# Altium footprint library EE_smallOB_BW_v1.0.PcbLib: 38 footprints (part 2 of 3)
Each footprint in its own frame and in the unit in brackets; x right, y up, seen from the top. Pads: shape width x height; smd on the part's side, far side on the other; paste and mask are expansions set on the pad; w line width, h text height; cw(c..) or ccw(c..) is an arc to the next point about the centre after c.
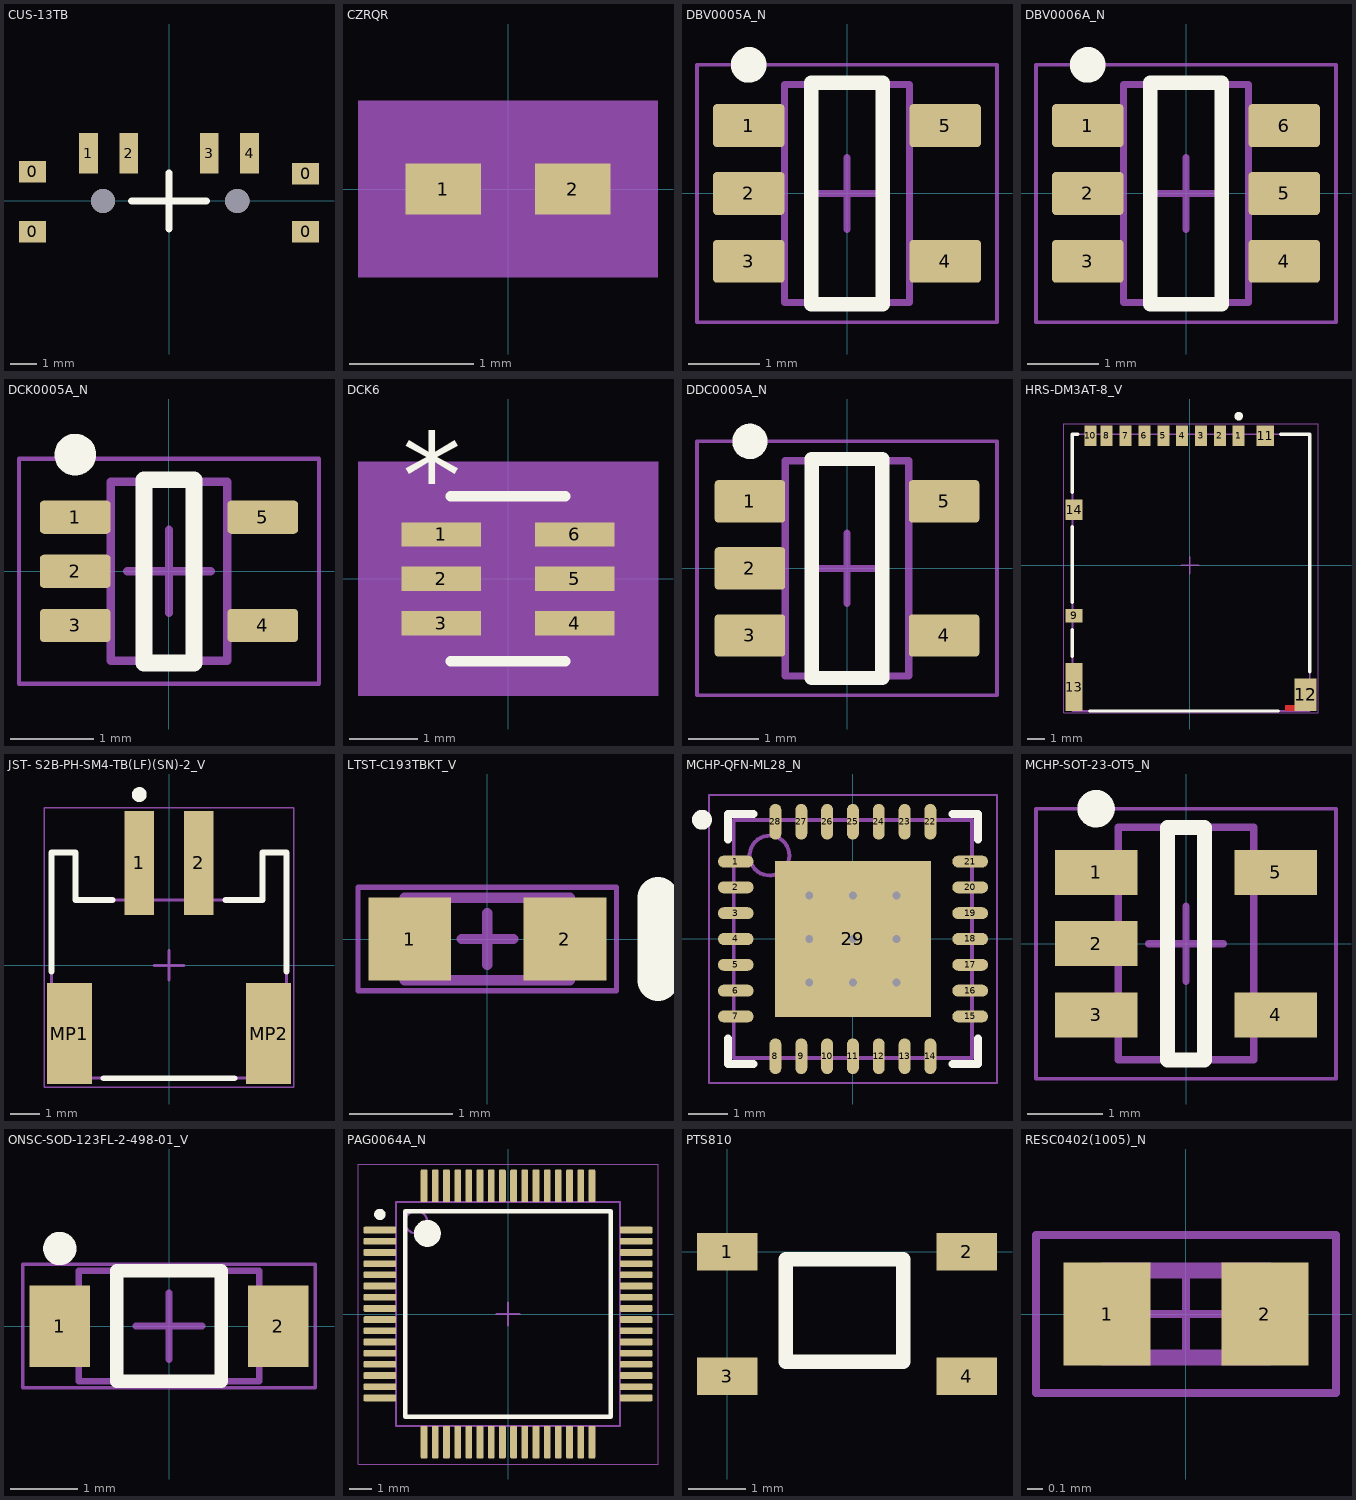
[diagram p1: the footprints below, top view; thin cyan lines are the x and y axes]

## CUS-13TB [mm]
pads (8):
  rect 1x0.8 smd: 0(-5.08,-1.143) 0(-5.08,1.092) 0(5.08,-1.143) 0(5.08,1.016)
  rect 0.7x1.5 smd: 1(-3,1.778) 2(-1.496,1.778) 3(1.5,1.778) 4(3,1.778)
via -2.46,0 diameter 0.9 hole 0.9
via 2.54,0 diameter 0.9 hole 0.9
Top Overlay:
  lines w0.254: -1.397,0 1.397,0 ; 0,-1.05 0,0 0,1.05

## CZRQR [mil]
pads (2):
  rect 24x16 smd paste+0 mask+0: 1(-20.5,0) 2(20.5,0)
Mechanical 5:
  region: 47.5,-28 -47.5,-28 -47.5,28 47.5,28
Mechanical 13:
  circle w6: c-8.5,0 r3
  lines w0: -12,13 ccw(c0,13) 12,13
  lines w1: -20.5,-13 20.5,-13 20.5,13 -20.5,13 -20.5,-13
Mechanical 15:
  region: -30.5,-18 -42.5,-18 -42.5,18 -30.5,18 -30.5,23 30.5,23 30.5,18 42.5,18 42.5,-18 30.5,-18 30.5,-23 -30.5,-23
  lines w6: -42.5,-18 -42.5,18 -30.5,18 -30.5,23 30.5,23 30.5,18 42.5,18 42.5,-18 30.5,-18 30.5,-23 -30.5,-23 -30.5,-18 -42.5,-18
3D body "CZRQR.step": height 22.09, standoff 0, extent -20.51,-12.99 20.51,13
3D body: height 10, standoff 0, extent 0,0 10,10

## DBV0005A_N [mm] "SOT23, 5-Leads, Body 3.05x1.75mm, Pitch 0.95mm, IPC Medium Density"
height 1.45
pads (5):
  rrect17% 1x0.6 smd: 1(-1.375,0.95) 2(-1.375,0) 3(-1.375,-0.95) 4(1.375,-0.95) 5(1.375,0.95)
Top Overlay:
  circle w0.25: c-1.375,1.8 r0.125
  lines w0.2: -0.5,-1.55 -0.5,1.55 0.5,1.55 0.5,-1.55 -0.5,-1.55
Mechanical 1:
  text ".Designator" at -0.635,-0.254 h0.4
Mechanical 13:
  lines w0.1: -0.875,-1.525 0.875,-1.525 0.875,1.525 -0.875,1.525 -0.875,-1.525
Mechanical 15:
  lines w0.05: -2.1,-1.8 2.1,-1.8 2.1,1.8 -2.1,1.8 -2.1,-1.8
  lines w0.1: -0.5,0 0.5,0 ; 0,-0.5 0,0.5
3D body "DBV0005AaksMF05A.stp": height 1.08, standoff -0.01, extent -1.422,-1.461 1.422,1.46

## DBV0006A_N [mm] "SOT23, 6-Leads, Body 3.05x1.75mm, Pitch 0.95mm, IPC Medium Density"
height 1.45
pads (6):
  rrect17% 1x0.6 smd: 1(-1.375,0.95) 2(-1.375,0) 3(-1.375,-0.95) 4(1.375,-0.95) 5(1.375,0) 6(1.375,0.95)
Top Overlay:
  circle w0.25: c-1.375,1.8 r0.125
  lines w0.2: -0.5,-1.55 -0.5,1.55 0.5,1.55 0.5,-1.55 -0.5,-1.55
Mechanical 1:
  text ".Designator" at -0.635,-0.127 h0.4
Mechanical 13:
  lines w0.1: -0.875,-1.525 0.875,-1.525 0.875,1.525 -0.875,1.525 -0.875,-1.525
Mechanical 15:
  lines w0.05: -2.1,-1.8 2.1,-1.8 2.1,1.8 -2.1,1.8 -2.1,-1.8
  lines w0.1: -0.5,0 0.5,0 ; 0,-0.5 0,0.5
3D body "DBV0006AakaMF06A.stp": height 1.11, standoff -0.01, extent -1.422,-1.461 1.422,1.46

## DCK0005A_N [mm] "SOT23, 5-Leads, Body 2.15x1.4mm, Pitch 0.65mm, IPC Medium Density"
height 1.1
pads (5):
  rrect25% 0.85x0.4 smd: 1(-1.125,0.65) 2(-1.125,0) 3(-1.125,-0.65) 4(1.125,-0.65) 5(1.125,0.65)
Top Overlay:
  circle w0.25: c-1.125,1.4 r0.125
  lines w0.2: -0.3,-1.1 -0.3,1.1 0.3,1.1 0.3,-1.1 -0.3,-1.1
Mechanical 1:
  text ".Designator" at -0.635,-0.127 h0.3
Mechanical 13:
  lines w0.1: -0.7,-1.075 0.7,-1.075 0.7,1.075 -0.7,1.075 -0.7,-1.075
Mechanical 15:
  lines w0.05: -1.8,-1.35 1.8,-1.35 1.8,1.35 -1.8,1.35 -1.8,-1.35
  lines w0.1: -0.5,0 0.5,0 ; 0,-0.5 0,0.5
3D body "DCK0005AakaMAA05A.stp": height 0.94, standoff -0.01, extent -1.14,-1 1.14,1

## DCK6 [mil]
pads (6):
  rect 46x14 smd paste+0 mask+0: 1(-38.5,25.59) 2(-38.5,0) 3(-38.5,-25.59) 4(38.5,-25.59) 5(38.5,0) 6(38.5,25.59)
Top Overlay:
  lines w6: -33,-47.5 33,-47.5 ; -33,47.5 33,47.5
  text "*" at -61,34.59 h50
Mechanical 5:
  region: 86.5,-67.5 -86.5,-67.5 -86.5,67.5 86.5,67.5
Mechanical 13:
  lines w0: -12,42.5 ccw(c0,42.5) 12,42.5
  lines w1: -47.5,-31.59 -28,-31.59 -28,-19.59 -47.5,-19.59 -47.5,-31.59 ; -47.5,-6 -28,-6 -28,6 -47.5,6 -47.5,-6 ; -47.5,19.59 -28,19.59 -28,31.59 -47.5,31.59 -47.5,19.59 ; -28,-42.5 -28,42.5 28,42.5 28,-42.5 -28,-42.5 ; 28,-31.59 47.5,-31.59 47.5,-19.59 28,-19.59 28,-31.59 ; 28,-6 47.5,-6 47.5,6 28,6 28,-6 ; 28,19.59 47.5,19.59 47.5,31.59 28,31.59 28,19.59
  text "*" at -25.5,-10.5 h50
Mechanical 15:
  region: -38,-42.59 -71.5,-42.59 -71.5,42.59 -38,42.59 -38,52.5 38,52.5 38,42.59 71.5,42.59 71.5,-42.59 38,-42.59 38,-52.5 -38,-52.5
  lines w6: -71.5,-42.59 -38,-42.59 -38,-52.5 38,-52.5 38,-42.59 71.5,-42.59 71.5,42.59 38,42.59 38,52.5 -38,52.5 -38,42.59 -71.5,42.59 -71.5,-42.59
3D body "DCK6.step": height 43.11, standoff 0, extent -47.52,-42.51 47.52,42.52
3D body: height 10, standoff 0, extent 0,0 10,10

## DDC0005A_N [mm] "SOT23, 5-Leads, Body 3.05x1.75mm, Pitch 0.95mm, IPC Medium Density"
height 1.1
pads (5):
  rrect17% 1x0.6 smd: 1(-1.375,0.95) 2(-1.375,0) 3(-1.375,-0.95) 4(1.375,-0.95) 5(1.375,0.95)
Top Overlay:
  circle w0.25: c-1.375,1.8 r0.125
  lines w0.2: -0.5,-1.55 -0.5,1.55 0.5,1.55 0.5,-1.55 -0.5,-1.55
Mechanical 1:
  text ".Designator" at -0.889,-0.127 h0.4
Mechanical 13:
  lines w0.1: -0.875,-1.525 0.875,-1.525 0.875,1.525 -0.875,1.525 -0.875,-1.525
Mechanical 15:
  lines w0.05: -2.125,-1.8 2.125,-1.8 2.125,1.8 -2.125,1.8 -2.125,-1.8
  lines w0.1: -0.5,0 0.5,0 ; 0,-0.5 0,0.5
3D body: height 1.1, standoff 0, extent -0.875,-1.525 0.875,1.525

## HRS-DM3AT-8_V [mm] "SMD, 8-Leads, Body 16.15x13.85mm, Pitch 1.1mm"
height 1.68
pads (14):
  rect 0.7x1.2 smd: 1(2.85,7.55) 2(1.75,7.55) 3(0.65,7.55) 4(-0.45,7.55) 5(-1.55,7.55) 6(-2.65,7.55) 7(-3.75,7.55) 8(-4.85,7.55) 10(-5.8,7.55)
  rect 1x0.8 smd: 9(-6.75,-2.95)
  rect 1x1.2 smd: 11(4.4,7.55) 14(-6.75,3.25)
  rect 1.3x1.9 smd: 12(6.75,-7.55)
  rect 1x2.8 smd: 13(-6.75,-7.1)
Top Layer:
  region: 6.25,-8.5 6.25,-8.15 5.55,-8.15 5.55,-8.5
Top Overlay:
  circle w0.25: c2.85,8.7 r0.125
  lines w0.2: -6.85,-5.3 -6.85,-3.75 ; -6.85,-2.15 -6.85,2.25 ; -6.85,4.25 -6.85,7.65 -6.55,7.65 ; -5.85,-8.5 5.15,-8.5 ; 5.3,7.65 7,7.65 7,-6.2
Mechanical 13:
  lines w0.1: -6.85,-8.5 -6.85,7.65 7,7.65 7,-8.5 -6.85,-8.5
Mechanical 15:
  lines w0.05: -7.35,-8.6 -7.35,8.25 7.5,8.25 7.5,-8.6 -7.35,-8.6
  lines w0.1: -0.5,0 0.5,0 ; 0,-0.5 0,0.5
3D body "DM3AT-SF-PEJM5.stp": height 1.68, standoff 0, extent -6.85,-8.5 7,7.65

## JST- S2B-PH-SM4-TB(LF)(SN)-2_V [mm] "SMD, 2-Leads, Body 7.9x7.6mm, Pitch 2mm"
height 5.5
pads (4):
  rect 1x3.5 smd: 1(-1,3.45) 2(1,3.45)
  rect 1.5x3.4 smd: MP1(-3.35,-2.3) MP2(3.35,-2.3)
Top Overlay:
  circle w0.25: c-1,5.75 r0.125
  lines w0.2: -3.95,-0.2 -3.95,3.8 -3.15,3.8 -3.15,2.2 -1.9,2.2 ; -2.2,-3.8 2.2,-3.8 ; 1.9,2.2 3.15,2.2 3.15,3.8 3.95,3.8 3.95,-0.2
Mechanical 13:
  lines w0.1: -3.95,-3 -3.45,-3 -3.45,-3.8 3.45,-3.8 3.45,-3 3.95,-3 3.95,3.8 3.15,3.8 3.15,2.2 -3.15,2.2 -3.15,3.8 -3.95,3.8 -3.95,-3
Mechanical 15:
  lines w0.05: -4.2,-4.1 -4.2,5.3 4.2,5.3 4.2,-4.1 -4.2,-4.1
  lines w0.1: -0.5,0 0.5,0 ; 0,-0.5 0,0.5
3D body "S2B-PH-SM4-TB.STEP": height 5.6, standoff 0, extent -3.95,-3.8 3.95,4.8

## LTST-C193TBKT_V [mm] "SMD, 2-Leads, Body 0.8x1.6mm"
height 0.35
pads (2):
  rect 0.8x0.8 smd: 1(-0.75,0) 2(0.75,0)
Top Overlay:
  lines w0.4: 1.65,-0.4 1.65,0.4
Mechanical 13:
  lines w0.1: -0.8,-0.4 0.8,-0.4 0.8,0.4 -0.8,0.4 -0.8,-0.4
Mechanical 15:
  lines w0.05: -1.25,-0.5 1.25,-0.5 1.25,0.5 -1.25,0.5 -1.25,-0.5
  lines w0.1: -0.25,0 0.25,0 ; 0,-0.25 0,0.25
3D body: height 0.18, standoff 0.01, extent -0.85,-0.45 0.85,0.45
3D body: height 0.01, standoff 0, extent -0.3,-0.45 0.3,0.45
3D body: height 0.01, standoff 0, extent 0.55,-0.45 0.85,0.45
3D body: height 0.01, standoff 0, extent -0.85,-0.45 -0.55,0.45
3D body: height 0.45, standoff 0.18, extent -0.575,-0.45 0.575,0.45
3D body: height 0.4, standoff 0.18, extent 0.15,-0.1 0.35,0.1

## MCHP-QFN-ML28_N [mm] "QFN, 28-Leads, Body 6x6mm, Pitch 0.65mm, Thermal Pad 3.7x3.7mm, IPC Medium Density"
height 1
pads (29):
  oval 0.9x0.3 smd: 1(-2.95,1.95) 2(-2.95,1.3) 3(-2.95,0.65) 4(-2.95,0) 5(-2.95,-0.65) 6(-2.95,-1.3) 7(-2.95,-1.95) 15(2.95,-1.95) 16(2.95,-1.3) 17(2.95,-0.65) 18(2.95,0) 19(2.95,0.65) 20(2.95,1.3) 21(2.95,1.95)
  oval 0.3x0.9 smd: 8(-1.95,-2.95) 9(-1.3,-2.95) 10(-0.65,-2.95) 11(0,-2.95) 12(0.65,-2.95) 13(1.3,-2.95) 14(1.95,-2.95) 22(1.95,2.95) 23(1.3,2.95) 24(0.65,2.95) 25(0,2.95) 26(-0.65,2.95) 27(-1.3,2.95) 28(-1.95,2.95)
  rect 3.93x3.93 smd: 29(0,0)
via 1.1,-1.1 diameter 0.5 hole 0.2
via 0,-1.1 diameter 0.5 hole 0.2
via -1.1,-1.1 diameter 0.5 hole 0.2
via 1.1,0 diameter 0.5 hole 0.2
via 0,0 diameter 0.5 hole 0.2
via -1.1,0 diameter 0.5 hole 0.2
via 1.1,1.1 diameter 0.5 hole 0.2
via 0,1.1 diameter 0.5 hole 0.2
via -1.1,1.1 diameter 0.5 hole 0.2
Top Overlay:
  circle w0.25: c-3.8,3 r0.125
  lines w0.2: -3.15,-2.5 -3.15,-3.15 -2.5,-3.15 ; -3.15,2.5 -3.15,3.15 -2.5,3.15 ; 2.5,-3.15 3.15,-3.15 3.15,-2.5 ; 2.5,3.15 3.15,3.15 3.15,2.5
Mechanical 13:
  circle w0.1: c-2.1,2.1 r0.5
  lines w0.1: -3,-3 3,-3 3,3 -3,3 -3,-3
Mechanical 15:
  lines w0.05: -3.625,-3.625 3.625,-3.625 3.625,3.625 -3.625,3.625 -3.625,-3.625
  lines w0.1: -0.5,0 0.5,0 ; 0,-0.5 0,0.5
3D body: height 1, standoff 0, extent -3,-3 3,3

## MCHP-SOT-23-OT5_N [mm] "SOT23, 5-Leads, Body 2.9x1.55mm, Pitch 0.95mm, IPC Medium Density"
height 1.45
pads (5):
  rect 1.1x0.6 smd: 1(-1.2,0.95) 2(-1.2,0) 3(-1.2,-0.95) 4(1.2,-0.95) 5(1.2,0.95)
Top Overlay:
  circle w0.25: c-1.2,1.8 r0.125
  lines w0.2: -0.25,-1.55 -0.25,1.55 0.25,1.55 0.25,-1.55 -0.25,-1.55
Mechanical 13:
  lines w0.1: -0.9,-1.55 0.9,-1.55 0.9,1.55 -0.9,1.55 -0.9,-1.55
Mechanical 15:
  lines w0.05: -2,-1.8 2,-1.8 2,1.8 -2,1.8 -2,-1.8
  lines w0.1: -0.5,0 0.5,0 ; 0,-0.5 0,0.5
3D body: height 1.45, standoff 0, extent -0.9,-1.55 0.9,1.55

## ONSC-SOD-123FL-2-498-01_V [mm] "SOD, 2-Leads, Body 2.7x1.65mm"
height 1
pads (2):
  rect 0.91x1.22 smd: 1(-1.635,0) 2(1.635,0)
Top Overlay:
  circle w0.25: c-1.635,1.16 r0.125
  lines w0.2: -0.78,-0.825 -0.78,0.825 0.78,0.825 0.78,-0.825 -0.78,-0.825
Mechanical 13:
  lines w0.1: -1.35,-0.825 -1.35,0.825 1.35,0.825 1.35,-0.825 -1.35,-0.825
Mechanical 15:
  lines w0.05: -2.19,-0.925 -2.19,0.925 2.19,0.925 2.19,-0.925 -2.19,-0.925
  lines w0.1: -0.5,0 0.5,0 ; 0,-0.5 0,0.5
3D body: height 1, standoff 0, extent -1.35,-0.825 1.35,0.825

## PAG0064A_N [mm] "QFP, 64-Leads, Body 10x10mm, Pitch 0.5mm, IPC Medium Density"
height 1.2
pads (64):
  rrect33% 1.45x0.3 smd: 1(-5.725,3.75) 2(-5.725,3.25) 3(-5.725,2.75) 4(-5.725,2.25) 5(-5.725,1.75) 6(-5.725,1.25) 7(-5.725,0.75) 8(-5.725,0.25) 9(-5.725,-0.25) 10(-5.725,-0.75) 11(-5.725,-1.25) 12(-5.725,-1.75) 13(-5.725,-2.25) 14(-5.725,-2.75) 15(-5.725,-3.25) 16(-5.725,-3.75) 33(5.725,-3.75) 34(5.725,-3.25) 35(5.725,-2.75) 36(5.725,-2.25) 37(5.725,-1.75) 38(5.725,-1.25) 39(5.725,-0.75) 40(5.725,-0.25) 41(5.725,0.25) 42(5.725,0.75) 43(5.725,1.25) 44(5.725,1.75) 45(5.725,2.25) 46(5.725,2.75) 47(5.725,3.25) 48(5.725,3.75)
  rrect33% 0.3x1.45 smd: 17(-3.75,-5.725) 18(-3.25,-5.725) 19(-2.75,-5.725) 20(-2.25,-5.725) 21(-1.75,-5.725) 22(-1.25,-5.725) 23(-0.75,-5.725) 24(-0.25,-5.725) 25(0.25,-5.725) 26(0.75,-5.725) 27(1.25,-5.725) 28(1.75,-5.725) 29(2.25,-5.725) 30(2.75,-5.725) 31(3.25,-5.725) 32(3.75,-5.725) 49(3.75,5.725) 50(3.25,5.725) 51(2.75,5.725) 52(2.25,5.725) 53(1.75,5.725) 54(1.25,5.725) 55(0.75,5.725) 56(0.25,5.725) 57(-0.25,5.725) 58(-0.75,5.725) 59(-1.25,5.725) 60(-1.75,5.725) 61(-2.25,5.725) 62(-2.75,5.725) 63(-3.25,5.725) 64(-3.75,5.725)
Top Overlay:
  circle w0.6: c-3.6,3.6 r0.3
  circle w0.25: c-5.725,4.45 r0.125
  lines w0.2: -4.6,-4.6 4.6,-4.6 4.6,4.6 -4.6,4.6 -4.6,-4.6
Mechanical 1:
  text ".Designator" at -1.524,-0.508 h1.02
Mechanical 13:
  circle w0.1: c-4.1,4.1 r0.5
  lines w0.1: -5,-5 5,-5 5,5 -5,5 -5,-5
Mechanical 15:
  lines w0.05: -6.7,-6.7 6.7,-6.7 6.7,6.7 -6.7,6.7 -6.7,-6.7
  lines w0.1: -0.5,0 0.5,0 ; 0,-0.5 0,0.5
3D body "PAG0064A.stp": height 1.09, standoff 0, extent -6,-6 6,6

## PTS810 [mm]
pads (4):
  rect 1.05x0.65 smd: 1(0,0) 2(4.15,0) 3(0,-2.15) 4(4.15,-2.15)
Top Overlay:
  lines w0.254: 1.016,-1.905 1.016,-0.127 3.048,-0.127 3.048,-1.905 1.016,-1.905

## RESC0402(1005)_N [mm] "Chip Resistor, Body 1.0x0.5mm, IPC Medium Density"
height 0.4
pads (2):
  rect 0.55x0.65 smd: 1(-0.5,0) 2(0.5,0)
Mechanical 13:
  lines w0.1: -0.525,-0.275 0.525,-0.275 0.525,0.275 -0.525,0.275 -0.525,-0.275
Mechanical 15:
  lines w0.05: -0.275,0 0.275,0 ; 0,-0.275 0,0.275 ; -0.95,-0.5 0.95,-0.5 0.95,0.5 -0.95,0.5 -0.95,-0.5
3D body: height 0.4, standoff 0, extent -0.525,-0.275 -0.3,0.275
3D body: height 0.4, standoff 0, extent -0.3,-0.275 0.3,0.275
3D body: height 0.4, standoff 0, extent 0.3,-0.275 0.525,0.275